# Altium footprint library PcbLib.PcbLib: 19 footprints (part 1 of 2)
Each footprint in its own frame and in the unit in brackets; x right, y up, seen from the top. Pads: shape width x height; smd on the part's side, far side on the other; paste and mask are expansions set on the pad; w line width, h text height; cw(c..) or ccw(c..) is an arc to the next point about the centre after c.
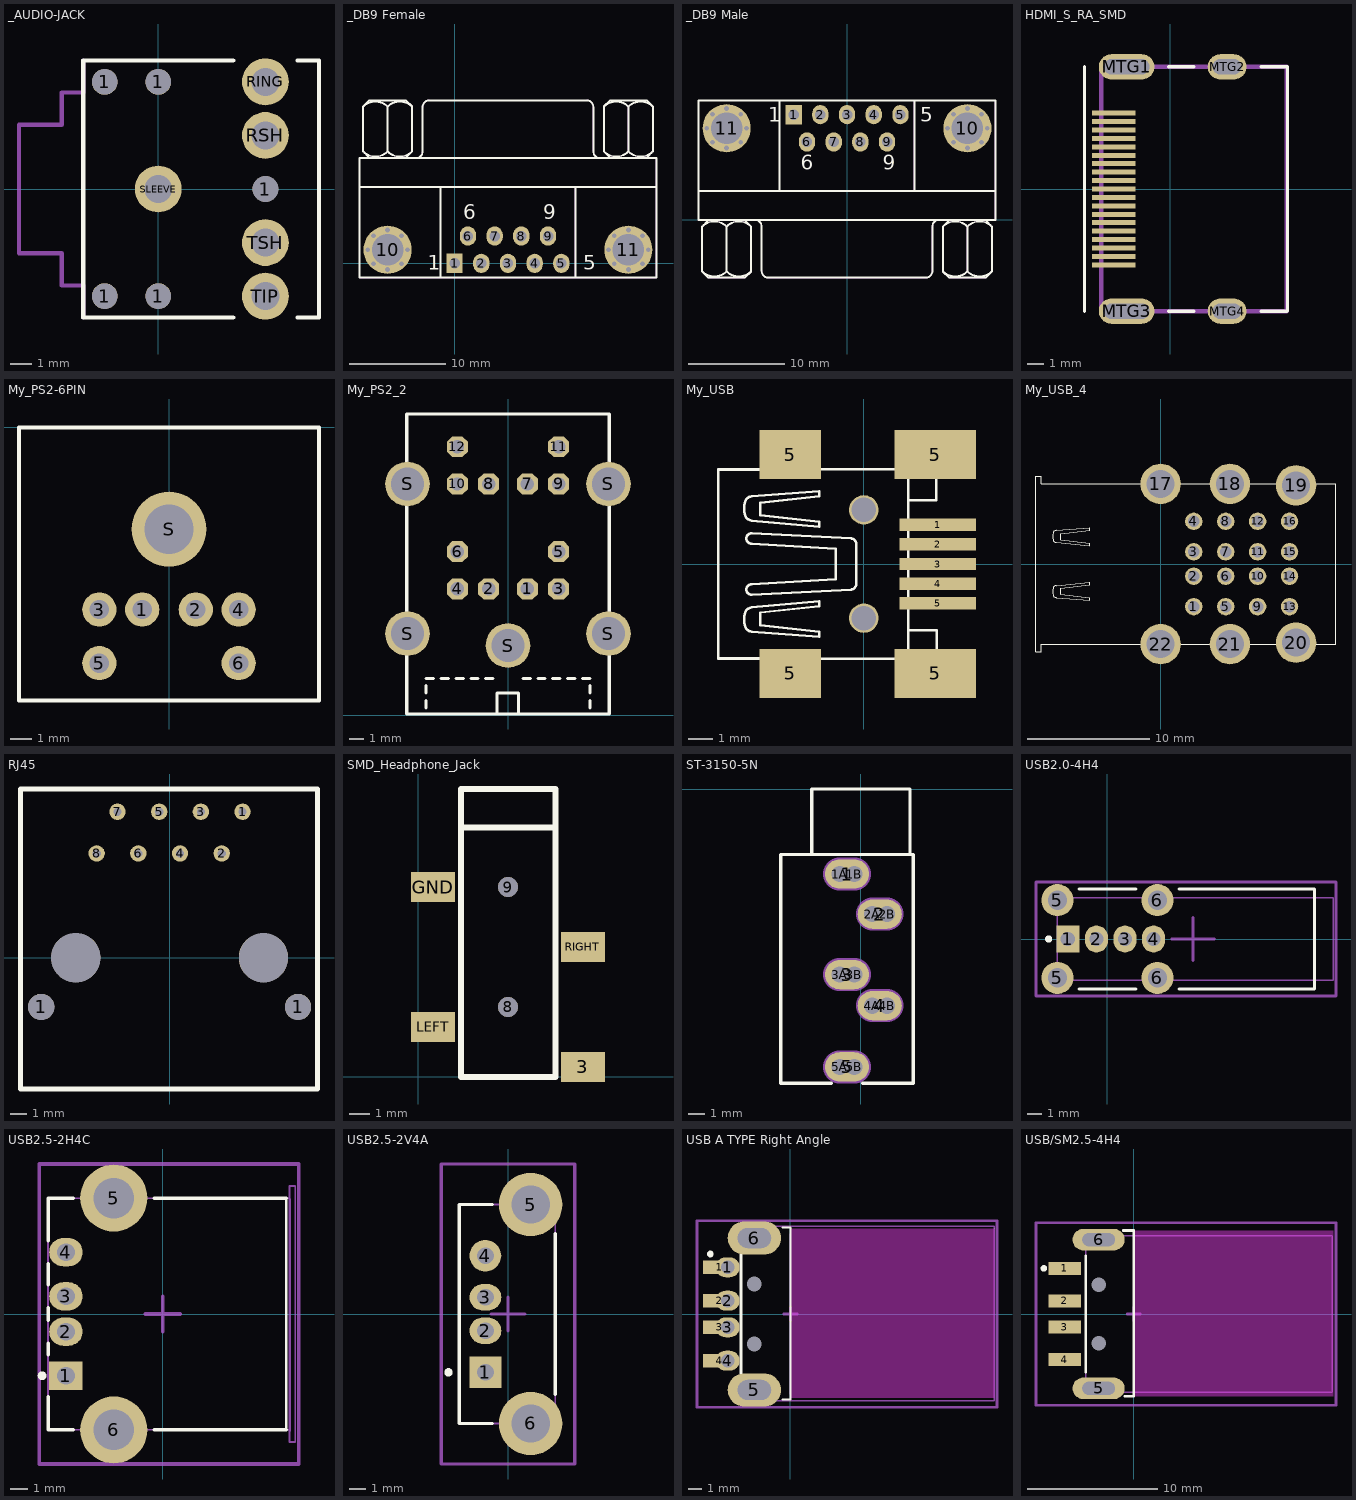
[diagram p0: the footprints below, top view; thin cyan lines are the x and y axes]

## _AUDIO-JACK [mm]
pads (10):
  round 1.2 hole 1.2: 1(-2.5,-5) 1(-2.5,5) 1(0,-5) 1(0,5) 1(5,0)
  round 2.184 hole 1.3: RING(5,5) RSH(5,2.5) SLEEVE(0,0) TIP(5,-5) TSH(5,-2.5)
Top Overlay:
  lines w0.203: 3.5,-6 -3.5,-6 -3.5,6 3.5,6 ; 6.5,-6 7.5,-6 7.5,6 6.5,6
Mechanical 16:
  lines w0.203: -3.5,-6 -3.5,-4.5 -4.5,-4.5 -4.5,-3 -6.5,-3 -6.5,3 -4.5,3 -4.5,4.5 -3.5,4.5 -3.5,6

## _DB9 Female [mm] "Connector; D Subminiature AMPLIMITE 2000; 9 Position; Right Angle"
height 12.75
pads (27):
  rect 1.69x2 hole 1.09: 1(0,0)
  oval 1.69x2 hole 1.09: 2(2.77,0) 3(5.54,0) 4(8.31,0) 5(11.08,0) 6(1.385,2.84) 7(4.155,2.84) 8(6.925,2.84) 9(9.695,2.84)
  round 0.8 hole 0.5: 10(-9.015,1.42) 10(-8.412,-0.037) 10(-8.412,2.877) 10(-6.955,-0.64) 10(-6.955,3.48) 10(-5.498,-0.037) 10(-5.498,2.877) 10(-4.895,1.42) 11(15.975,1.42) 11(16.578,-0.037) 11(16.578,2.877) 11(18.035,-0.64) 11(18.035,3.48) 11(19.492,-0.037) 11(19.492,2.877) 11(20.095,1.42)
  round 5 hole 3.26: 10(-6.955,1.42) 11(18.035,1.42)
Top Overlay:
  lines w0.2: -9.86,7.92 20.94,7.92 ; -9.498,16.27 -9.498,11.619 -8.863,10.984 ; -9.498,16.285 -8.863,16.92 -5.053,16.92 -4.418,16.285 ; -6.958,11.619 -6.958,16.27 ; -5.053,10.984 -4.418,11.619 -4.418,16.27 ; -4.418,15.006 -4.418,15.218 ; -4.02,10.925 ccw(c-4.02,11.62) -3.325,11.62 -3.325,16.22 ; -3.32,16.225 cw(c-2.625,16.225) -2.625,16.92 13.705,16.92 cw(c13.705,16.225) 14.4,16.225 ; -1.46,-1.48 -1.46,7.92 ; 12.54,-1.48 12.54,7.92 ; 14.405,16.22 14.405,11.62 ccw(c15.1,11.62) 15.1,10.925 ; 15.502,16.27 15.502,11.619 16.137,10.984 ; 15.502,16.285 16.137,16.92 19.947,16.92 20.582,16.285 ; 18.042,11.619 18.042,16.27 ; 19.947,10.984 20.582,11.619 20.582,16.27 ; 20.582,15.006 20.582,15.218 ; -9.86,-1.48 -9.86,10.92 20.94,10.92 20.94,-1.48 -9.86,-1.48
  lines w0.203: -9.5,11.617 ccw(c-8.228,12.889) -6.956,11.617 ; -9.498,16.27 cw(c-8.226,14.998) -6.953,16.27 ; -6.962,16.27 cw(c-5.69,14.998) -4.418,16.27 ; -6.96,11.617 ccw(c-5.688,12.889) -4.416,11.617 ; 15.5,11.617 ccw(c16.772,12.889) 18.044,11.617 ; 15.502,16.27 cw(c16.774,14.998) 18.047,16.27 ; 18.038,16.27 cw(c19.31,14.998) 20.582,16.27 ; 18.04,11.617 ccw(c19.312,12.889) 20.584,11.617
  text "1" at -2.794,-0.64 h1.5
  text "5" at 13.335,-0.64 h1.5
  text "9" at 9.2,4.6 h1.5
  text "6" at 0.9,4.6 h1.5
Mechanical 1:
  lines w0.1: -4.02,10.925 ccw(c-4.02,11.62) -3.325,11.62 ; -3.32,16.225 cw(c-2.625,16.225) -2.625,16.92 ; 13.705,16.92 cw(c13.705,16.225) 14.4,16.225 ; 14.405,11.62 ccw(c15.1,11.62) 15.1,10.925
Mechanical 13:
  lines w0.1: -9.86,7.92 20.94,7.92 ; -9.5,11.617 ccw(c-8.228,12.889) -6.956,11.617 ; -9.498,16.285 -8.863,16.92 -5.053,16.92 -4.418,16.285 ; -8.863,10.984 -9.498,11.619 -9.498,16.27 cw(c-8.226,14.998) -6.953,16.27 ; -6.962,16.27 cw(c-5.69,14.998) -4.418,16.27 -4.418,11.619 -5.053,10.984 ; -6.96,11.617 ccw(c-5.688,12.889) -4.416,11.617 ; -6.958,11.619 -6.958,16.27 ; -4.418,15.006 -4.418,15.218 ; -3.325,11.62 -3.325,16.22 ; -2.625,16.92 13.705,16.92 ; -1.46,-1.48 -1.46,7.92 ; 12.54,-1.48 12.54,7.92 ; 14.405,11.62 14.405,16.22 ; 15.5,11.617 ccw(c16.772,12.889) 18.044,11.617 ; 15.502,16.285 16.137,16.92 19.947,16.92 20.582,16.285 ; 16.137,10.984 15.502,11.619 15.502,16.27 cw(c16.774,14.998) 18.047,16.27 ; 18.038,16.27 cw(c19.31,14.998) 20.582,16.27 20.582,11.619 19.947,10.984 ; 18.04,11.617 ccw(c19.312,12.889) 20.584,11.617 ; 18.042,11.619 18.042,16.27 ; 20.582,15.006 20.582,15.218 ; -9.86,-1.48 -9.86,10.92 20.94,10.92 20.94,-1.48 -9.86,-1.48
3D body "9-PIN_DSUB-1.STEP": height 12.71, standoff -3.01, extent -9.865,-2.034 20.945,17.041

## _DB9 Male [mm] "Connector; D Subminiature AMPLIMITE 2000; 9 Position; Right Angle"
height 12.75
pads (27):
  rect 1.69x2 hole 1.09: 1(-5.54,10.92)
  oval 1.69x2 hole 1.09: 2(-2.77,10.92) 3(0,10.92) 4(2.77,10.92) 5(5.54,10.92) 6(-4.155,8.08) 7(-1.385,8.08) 8(1.385,8.08) 9(4.155,8.08)
  round 0.8 hole 0.5: 10(10.435,9.5) 10(11.038,8.043) 10(11.038,10.957) 10(12.495,7.44) 10(12.495,11.56) 10(13.952,8.043) 10(13.952,10.957) 10(14.555,9.5) 11(-14.555,9.5) 11(-13.952,8.043) 11(-13.952,10.957) 11(-12.495,7.44) 11(-12.495,11.56) 11(-11.038,8.043) 11(-11.038,10.957) 11(-10.435,9.5)
  round 5 hole 3.26: 10(12.495,9.5) 11(-12.495,9.5)
Top Overlay:
  lines w0.2: -15.4,3 15.4,3 ; -15.042,-5.365 -14.407,-6 -10.597,-6 -9.962,-5.365 ; -15.042,-5.35 -15.042,-0.699 -14.407,-0.064 ; -15.042,-4.298 -15.042,-4.086 ; -12.502,-5.35 -12.502,-0.699 ; -10.597,-0.064 -9.962,-0.699 -9.962,-5.35 ; -9.56,-0.005 cw(c-9.56,-0.7) -8.865,-0.7 -8.865,-5.3 ; -8.86,-5.305 ccw(c-8.165,-5.305) -8.165,-6 8.165,-6 ccw(c8.165,-5.305) 8.86,-5.305 ; -7,3 -7,12.4 ; 7,3 7,12.4 ; 8.865,-5.3 8.865,-0.7 cw(c9.56,-0.7) 9.56,-0.005 ; 9.958,-5.365 10.593,-6 14.403,-6 15.038,-5.365 ; 9.958,-5.35 9.958,-0.699 10.593,-0.064 ; 9.958,-4.298 9.958,-4.086 ; 12.498,-5.35 12.498,-0.699 ; 14.403,-0.064 15.038,-0.699 15.038,-5.35 ; -15.4,0 15.4,0 15.4,12.4 -15.4,12.4 -15.4,0
  lines w0.203: -15.044,-0.697 cw(c-13.772,-1.969) -12.5,-0.697 ; -15.042,-5.35 ccw(c-13.77,-4.078) -12.498,-5.35 ; -12.507,-5.35 ccw(c-11.234,-4.078) -9.962,-5.35 ; -12.504,-0.697 cw(c-11.232,-1.969) -9.96,-0.697 ; 9.956,-0.697 cw(c11.228,-1.969) 12.5,-0.697 ; 9.958,-5.35 ccw(c11.23,-4.078) 12.502,-5.35 ; 12.493,-5.35 ccw(c13.766,-4.078) 15.038,-5.35 ; 12.496,-0.697 cw(c13.768,-1.969) 15.04,-0.697
  text "9" at 3.7,5.2 h1.5
  text "5" at 7.6,10.2 h1.5
  text "1" at -8.165,10.2 h1.5
  text "6" at -4.8,5.2 h1.5
Mechanical 13:
  lines w0.1: -15.4,3 15.4,3 ; -15.044,-0.697 cw(c-13.772,-1.969) -12.5,-0.697 ; -15.042,-5.365 -14.407,-6 -10.597,-6 -9.962,-5.365 ; -15.042,-4.298 -15.042,-4.086 ; -14.407,-0.064 -15.042,-0.699 -15.042,-5.35 ccw(c-13.77,-4.078) -12.498,-5.35 ; -12.507,-5.35 ccw(c-11.234,-4.078) -9.962,-5.35 -9.962,-0.699 -10.597,-0.064 ; -12.504,-0.697 cw(c-11.232,-1.969) -9.96,-0.697 ; -12.502,-5.35 -12.502,-0.699 ; -9.56,-0.005 cw(c-9.56,-0.7) -8.865,-0.7 -8.865,-5.3 ; -8.86,-5.305 ccw(c-8.165,-5.305) -8.165,-6 8.165,-6 ccw(c8.165,-5.305) 8.86,-5.305 ; -7,3 -7,12.4 ; 7,3 7,12.4 ; 8.865,-5.3 8.865,-0.7 cw(c9.56,-0.7) 9.56,-0.005 ; 9.956,-0.697 cw(c11.228,-1.969) 12.5,-0.697 ; 9.958,-5.365 10.593,-6 14.403,-6 15.038,-5.365 ; 9.958,-4.298 9.958,-4.086 ; 10.593,-0.064 9.958,-0.699 9.958,-5.35 ccw(c11.23,-4.078) 12.502,-5.35 ; 12.493,-5.35 ccw(c13.766,-4.078) 15.038,-5.35 15.038,-0.699 14.403,-0.064 ; 12.496,-0.697 cw(c13.768,-1.969) 15.04,-0.697 ; 12.498,-5.35 12.498,-0.699 ; -15.4,0 15.4,0 15.4,12.4 -15.4,12.4 -15.4,0
3D body "9-PIN_DSUB.STEP": height 12.77, standoff -2.95, extent -15.483,-6.688 15.403,12.997

## HDMI_S_RA_SMD [mm]
pads (23):
  rect 2.6x0.3 smd mask+0.025: 1(-3.36,4.5) 2(-3.36,4) 3(-3.36,3.5) 4(-3.36,3) 5(-3.36,2.5) 6(-3.36,2) 7(-3.36,1.5) 8(-3.36,1) 9(-3.36,0.5) 10(-3.36,0) 11(-3.36,-0.5) 12(-3.36,-1) 13(-3.36,-1.5) 14(-3.36,-2) 15(-3.36,-2.5) 16(-3.36,-3) 17(-3.36,-3.5) 18(-3.36,-4) 19(-3.36,-4.5)
  oval 3.3x1.5 hole 0.9 slot 2.7 at 0 deg: MTG1(-2.6,7.25) MTG3(-2.6,-7.25)
  oval 2.3x1.5 hole 0.9 slot 1.7 at 0 deg: MTG2(3.36,7.25) MTG4(3.36,-7.25)
Top Overlay:
  lines w0.2: -5.1,-7.25 -5.1,7.25 ; -0.1,-7.25 1.4,-7.25 ; -0.1,7.25 1.4,7.25 ; 5.4,-7.25 6.9,-7.25 6.95,-7.2 6.95,7.25 ; 5.4,7.25 6.9,7.25
Mechanical 16:
  lines w0.254: -4.1,-7.25 6.9,-7.25 6.9,7.25 -4.1,7.25 -4.1,-7.25
Mechanical 29:
  text ".Designator" at 0.5,2.3 h1.52
3D body "471510001.stp": height 6.28, standoff -2.1, extent -4.2,-7.5 7.95,7.5

## My_PS2-6PIN [mm]
pads (7):
  round 1.6 hole 0.9: 1(-1.25,-8.5) 2(1.25,-8.5) 3(-3.25,-8.5) 4(3.25,-8.5) 5(-3.25,-11) 6(3.25,-11)
  round 3.5 hole 2.3: S(0,-4.75)
Top Overlay:
  lines w0.2: -7,-12.75 7,-12.75 7,0 -7,0 -7,-12.75

## My_PS2_2 [mm]
pads (17):
  oct 1.408x1.408 hole 0.9: 1(1.3,8.5) 2(-1.3,8.5) 3(3.4,8.5) 4(-3.4,8.5) 5(3.4,11) 6(-3.4,11) 7(1.3,15.55) 8(-1.3,15.55) 9(3.4,15.55) 10(-3.4,15.55) 11(3.4,18.05) 12(-3.4,18.05)
  round 3 hole 2.2 unplated: S(-6.75,5.5) S(-6.75,15.55) S(0,4.7) S(6.75,5.5) S(6.75,15.55)
Top Overlay:
  lines w0.203: -5.5,0.5 -5.5,1 ; -5.5,1.5 -5.5,2 ; -5.5,2.5 -5,2.5 ; -4.5,2.5 -4,2.5 ; -3.5,2.5 -3,2.5 ; -2.5,2.5 -2,2.5 ; -1.5,2.5 -1,2.5 ; -0.75,0.1 -0.75,1.5 0.7,1.5 0.7,0.1 ; 1,2.5 1.5,2.5 ; 2,2.5 2.5,2.5 ; 3,2.5 3.5,2.5 ; 4,2.5 4.5,2.5 ; 5,2.5 5.5,2.5 ; 5.5,0.5 5.5,1 ; 5.5,1.5 5.5,2 ; -6.8,0.1 6.8,0.1 6.8,20.25 -6.8,20.25 -6.8,0.1

## My_USB [mm]
pads (11):
  rect 3.1x0.5 smd: 1(3,1.6) 2(3,0.8) 3(3,0) 4(3,-0.8) 5(3,-1.6)
  rect 2.5x2 smd: 5(-3,-4.45) 5(-3,4.45)
  rect 3.3x2 smd: 5(2.9,-4.45) 5(2.9,4.45)
  round 1.2 hole 1 unplated: ""(0,-2.2) ""(0,2.2)
Top Overlay:
  lines w0.102: -4.415,-3.841 -5.918,-3.841 ; -4.415,3.841 -5.918,3.842 ; -3.688,-3.841 -5.918,-3.841 ; -3.688,3.842 -5.918,3.842 ; -1.603,-3.847 1.084,-3.847 ; -1.552,3.847 0.983,3.847 ; -0.312,0.831 ccw(c-0.531,0.819) -0.519,1.038 -4.568,1.246 ccw(c-4.569,1.038) -4.776,1.038 ccw(c-4.569,1.038) -4.569,0.831 -1.142,0.623 -1.142,-0.623 -4.569,-0.83 ccw(c-4.569,-1.038) -4.776,-1.038 ccw(c-4.569,-1.038) -4.569,-1.246 -0.519,-1.038 ccw(c-0.531,-0.818) -0.312,-0.83 -0.312,0.831 ; 1.81,-3.847 1.81,3.78 ; 1.81,-3.324 1.81,-2.7 2.957,-2.7 ; 1.81,3.324 1.81,2.599 2.94,2.599 ; 2.94,3.324 2.94,2.599 ; 2.94,3.797 2.94,2.599 ; 2.957,-3.822 2.957,-2.7 ; 2.957,-3.332 2.957,-2.7 ; 3.16,-3.847 -5.923,-3.847 -5.923,3.847 3.16,3.847 ; -5.918,-3.841 -5.918,3.842 ; -5.918,-3.841 -5.918,-3.841 ; -4.828,-2.543 cw(c-3.897,-2.258) -4.828,-1.972 cw(c-4.546,-2.059) -4.569,-1.765 -1.817,-1.505 -1.817,-1.713 -4.205,-1.972 -4.205,-2.491 -1.817,-2.751 -1.817,-2.959 -4.569,-2.751 cw(c-4.546,-2.457) -4.828,-2.543 ; -4.828,1.973 ccw(c-4.546,2.059) -4.569,1.765 -1.817,1.506 -1.817,1.713 -4.205,1.973 -4.205,2.492 -1.817,2.752 -1.817,2.959 -4.569,2.752 ccw(c-4.546,2.458) -4.828,2.544 ccw(c-3.897,2.258) -4.828,1.973

## My_USB_4 [mm]
pads (22):
  round 1.428 hole 0.92: 1(2.71,-3.5) 2(2.71,-1) 3(2.71,1) 4(2.71,3.5) 5(5.33,-3.5) 6(5.33,-1) 7(5.33,1) 8(5.33,3.5) 9(7.95,-3.5) 10(7.95,-1) 11(7.95,1) 12(7.95,3.5) 13(10.57,-3.5) 14(10.57,-1) 15(10.57,1) 16(10.57,3.5)
  round 3.316 hole 2.3: 17(0,6.57) 18(5.68,6.57) 19(11.1,6.45) 20(11.1,-6.45) 21(5.68,-6.57) 22(0,-6.57)
Top Overlay:
  lines w0.102: -10.225,-7.2 -9.775,-7.2 -9.775,-6.6 -1.825,-6.6 1.85,-6.6 3.75,-6.6 7.5,-6.6 9.075,-6.6 13.15,-6.6 14.375,-6.6 14.375,6.6 13.125,6.6 9.225,6.6 7.5,6.6 3.85,6.6 1.975,6.6 -1.925,6.6 -9.775,6.6 -9.775,7.2 -10.225,7.2 -10.225,-7.2 ; -8.828,-2.543 ccw(c-8.546,-2.457) -8.568,-2.751 -5.817,-2.959 -5.817,-2.751 -8.205,-2.491 -8.205,-1.972 -5.817,-1.713 -5.817,-1.505 -8.568,-1.765 ccw(c-8.546,-2.059) -8.828,-1.972 ccw(c-7.897,-2.258) -8.828,-2.543 ; -8.828,1.973 cw(c-7.897,2.258) -8.828,2.544 cw(c-8.546,2.458) -8.568,2.752 -5.817,2.959 -5.817,2.752 -8.205,2.492 -8.205,1.973 -5.817,1.713 -5.817,1.506 -8.568,1.765 cw(c-8.546,2.059) -8.828,1.973

## RJ45 [mm]
pads (12):
  round 1.6 hole 1.6: 1(-7.825,-3) 1(7.825,-3)
  round 1 hole 0.5: 1(4.445,8.89) 2(3.175,6.35) 3(1.905,8.89) 4(0.635,6.35) 5(-0.635,8.89) 6(-1.905,6.35) 7(-3.175,8.89) 8(-4.445,6.35)
  round 3 hole 3: ""(-5.715,0) ""(5.715,0)
Top Overlay:
  lines w0.3: -9.075,-8 -9.075,10.275 9,10.275 9,-8 -9,-8

## SMD_Headphone_Jack [mm]
pads (6):
  rect 2.2x1.5 smd: 3(8.25,0.5) GND(0.75,9.5) LEFT(0.75,2.5) RIGHT(8.25,6.5)
  round 1 hole 1: 8(4.5,3.5) 9(4.5,9.5)
Top Overlay:
  lines w0.3: 2.15,12.475 6.8,12.475 ; 2.15,0 6.875,0 6.875,14.4 2.15,14.4 2.15,0

## ST-3150-5N [mm]
pads (15):
  oval 2.7x1.8 all layers, no hole: 1(-0.85,-5.2) 2(1.15,-7.65) 3(-0.85,-11.35) 4(1.15,-13.25) 5(-0.85,-17)
  round 1.2 hole 1: 1A(-1.3,-5.2) 1B(-0.4,-5.2) 2A(0.7,-7.65) 2B(1.6,-7.65) 3A(-1.3,-11.35) 3B(-0.4,-11.35) 4A(0.7,-13.25) 4B(1.6,-13.25) 5A(-1.3,-17) 5B(-0.4,-17)
Top Overlay:
  lines w0.2: -3,-4 -3,0 3,0 3,-4 ; -1.8,-18 -4.9,-18 -4.9,-4 3.2,-4 3.2,-18 0.1,-18
Mechanical 1:
  lines w1: -1.3,-17 -0.4,-17 ; -1.3,-11.35 -0.4,-11.35 ; -1.3,-5.2 -0.4,-5.2 ; 0.7,-13.25 1.6,-13.25 ; 0.7,-7.65 1.6,-7.65
Mechanical 2:
  lines w2.016: -1.3,-17 -0.4,-17 ; -1.3,-11.35 -0.4,-11.35 ; -1.3,-5.2 -0.4,-5.2 ; 0.7,-13.25 1.6,-13.25 ; 0.7,-7.65 1.6,-7.65

## USB2.0-4H4 [mm] "Connector; USB1.1, Type A, Thru-Hole; 4 Position; Right Angle DESIGNER ABBAS BASEREH"
height 13.83
pads (8):
  rect 1.6x1.9 hole 1: 1(-2.77,0)
  oval 1.6x1.9 hole 1: 2(-0.77,0) 3(1.23,0) 4(3.23,0)
  round 2.25 hole 1.35: 5(-3.5,-2.72) 5(-3.5,2.72) 6(3.5,-2.72) 6(3.5,2.72)
Top Overlay:
  circle w0.25: c-4.12,0 r0.125
  lines w0.2: -1.98,-3.5 2,-3.5 ; -1.98,3.5 2,3.5 ; 5.01,-3.5 14.5,-3.5 14.5,3.5 5.01,3.5
Mechanical 13:
  lines w0.1: -3.5,-2.88 15.79,-2.88 15.79,2.88 -3.5,2.88 -3.5,-2.88
Mechanical 15:
  lines w0.2: 4.5,0 7.5,0 ; 6,-1.5 6,1.5 ; -5,-4 -5,4 16,4 16,-4 -5,-4
3D body "usb_a-usb_a-e.stp": height 14.25, standoff -3.9, extent -3.995,-3.564 15.255,3.556

## USB2.5-2H4C [mm] "Connector; USB1.1, Type A, Thru-Hole; 4 Position; Right Angle DESIGNER ABBAS BASEREH"
height 7.01
pads (6):
  rect 1.9x1.6 hole 1: 1(-5.49,-3.5)
  oval 1.9x1.6 hole 1: 2(-5.49,-1) 3(-5.49,1) 4(-5.49,3.5)
  round 3.8 hole 2.3: 5(-2.78,6.57) 6(-2.78,-6.57)
Top Overlay:
  circle w0.25: c-6.84,-3.5 r0.125
  lines w0.15: 7,-6.565 7,6.565
  lines w0.2: -6.5,-4.7 -6.5,-6.565 -5.08,-6.565 ; -6.5,-2.3 -6.5,-1.66 ; -6.5,-0.34 -6.5,0.34 ; -6.5,1.66 -6.5,2.84 ; -6.5,4.16 -6.5,6.565 -5.08,6.565 ; -0.48,-6.565 7,-6.565 ; -0.48,6.565 7,6.565
Mechanical 1:
  lines w0.15: 7.2,-6.6 7.2,6.5
Mechanical 13:
  lines w0.1: -6.5,-6.565 7.18,-6.565 7.18,-7.25 7.5,-7.25 7.5,7.25 7.18,7.25 7.18,6.565 -6.5,6.565 -6.5,-6.565
Mechanical 15:
  lines w0.2: -1,0 1,0 ; 0,-1 0,1 ; -7,-8.5 7.7,-8.5 7.7,8.5 -7,8.5 -7,-8.5
3D body "14388.STEP": height 7.35, standoff -3.5, extent -6.902,-7.9 7.598,7.9

## USB2.5-2V4A [mm] "Connector; USB1.1, Type A, Thru-Hole; 4 Position; Vertical DESIGNER ABBAS BASEREH"
height 15
pads (6):
  rect 1.9x1.9 hole 1: 1(-1.355,-3.5)
  oval 1.9x1.6 hole 1: 2(-1.355,-1) 3(-1.355,1)
  round 1.9 hole 1: 4(-1.355,3.5)
  round 3.8 hole 2.3: 5(1.355,6.57) 6(1.355,-6.57)
Top Overlay:
  circle w0.25: c-3.575,-3.5 r0.125
  lines w0.2: -0.945,-6.57 -2.925,-6.57 -2.925,6.57 -0.945,6.57 ; 2.835,-4.81 2.835,4.81
Mechanical 13:
  lines w0.1: -2.925,-6.57 2.835,-6.57 2.835,6.57 -2.925,6.57 -2.925,-6.57
Mechanical 15:
  lines w0.2: -1,0 1,0 ; 0,-1 0,1 ; -4,-9 4,-9 4,9 -4,9 -4,-9
3D body "14382.STEP": height 15, standoff -2.99, extent -3.865,-7.99 3.775,7.99

## USB A TYPE Right Angle [mm] "Connector; USB1.1, Type A, SM; 4 Position; Right Angle DESIGNER ABBAS BASEREH"
height 4.5
pads (12):
  rect 2.5x1 smd: 1(-5.3,3.5) 2(-5.3,1) 3(-5.3,-1) 4(-5.3,-3.5)
  oval 1.8x1.5 hole 1: 1(-4.7,3.5) 2(-4.7,1) 3(-4.7,-1) 4(-4.7,-3.5)
  oval 4x2.5 hole 1.5 slot 2.5 at 0 deg: 5(-2.7,-5.7) 6(-2.7,5.7)
  round 0.8 hole 1.1 unplated: MH1(-2.7,-2.25) MH2(-2.7,2.25)
Top Overlay:
  circle w0.25: c-6,4.5 r0.125
  lines w0.15: -0.6,-6.4 0,-6.4 0,6.5 -0.6,6.5
  lines w0.2: -3.7,-4.475 -3.7,4.475
Keep-Out Layer:
  board cut-out: 0,6.4 0,-6.3 15.3,-6.3 15.3,6.4
Mechanical 1:
  lines w0.1: 0,-6 0,6
  text "PCB Edge" at 0.473,-5.173 h0.25
Mechanical 13:
  lines w0.1: -3.7,-6.5 -3.7,6.6 15.3,6.6 15.3,-6.5 -3.7,-6.5
Mechanical 15:
  lines w0.2: -0.5,0 0.5,0 ; 0,-0.5 0,0.5 ; -7,-7 15.5,-7 15.5,7 -7,7 -7,-7
3D body "UP2-AH-1-TH.stEp": height 3.45, standoff -2.9, extent -4.9,-6.3 15.1,6.3

## USB/SM2.5-4H4 [mm] "Connector; USB1.1, Type A, SM; 4 Position; Right Angle DESIGNER ABBAS BASEREH"
height 4.5
pads (8):
  rect 2.5x1 smd: 1(-5.3,3.5) 2(-5.3,1) 3(-5.3,-1) 4(-5.3,-3.5)
  oval 4x1.65 hole 1 slot 2.5 at 0 deg: 5(-2.7,-5.7) 6(-2.7,5.7)
  round 0.8 hole 1.1 unplated: MH1(-2.7,-2.25) MH2(-2.7,2.25)
Top Overlay:
  circle w0.25: c-6.9,3.5 r0.125
  lines w0.2: -3.7,-4.475 -3.7,4.475 ; -0.8,6.4 0,6.4 0,-6.3 -0.7,-6.3
Keep-Out Layer:
  board cut-out: 0,6.4 0,-6.3 15.3,-6.3 15.3,6.4
Mechanical 1:
  lines w0.1: 0,-6 0,6
  text "PCB Edge" at 0.473,-5.173 h0.25
Mechanical 13:
  lines w0.1: -3.7,-6 -3.7,6 15.2,6 15.2,-6 -3.7,-6
Mechanical 15:
  lines w0.2: -0.5,0 0.5,0 ; 0,-0.5 0,0.5 ; -7.5,-7 15.5,-7 15.5,7 -7.5,7 -7.5,-7
3D body "14381.STEP": height 3.13, standoff -2.67, extent -5.3,-6.303 15,6.303